# EAGLE library part LTC4416EMS-1#TRPBF (library RoboJackets-ICs)
OR Controller Source Selector Switch P-Channel 2:2 10-MSOP Datasheet <https://www.analog.com/media/en/technical-documentation/data-sheets/4416fa.pdf>
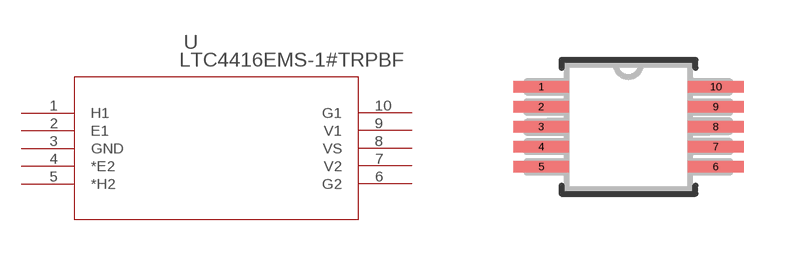
[diagram p22: symbol with the pads of MSOP-10_MS; footprint MSOP-10_MS]

Designator prefix U

## LTC4416EMS-1#TRPBF (DKPN: LTC4416EMS-1#TRPBFCT-ND)  [MSOP-10_MS]
1  H1  out
2  E1  in
3  GND  pwr
4  *E2  in
5  *H2  in
6  G2  pas
7  V2  in
8  VS  in
9  V1  in
10  G1  pas

## Footprint MSOP-10_MS (pad centres in mm)
smd 1.397 x 0.279: 1 -2.184,1.001; 2 -2.184,0.5; 3 -2.184,0; 4 -2.184,-0.5; 5 -2.184,-1.001; 6 2.184,-1.001; 7 2.184,-0.5; 8 2.184,0; 9 2.184,0.5; 10 2.184,1.001